# EAGLE library part DS1347 (library vulcan-1)
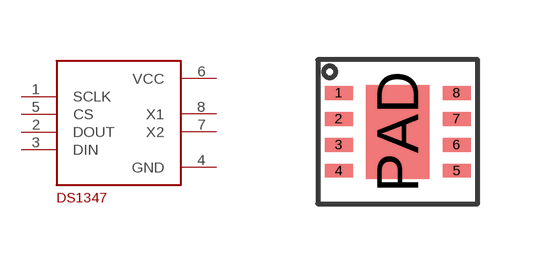
[diagram p4: symbol with the pads of TDFN-T822-2; footprint TDFN-T822-2]

Designator prefix -

## DS1347  [TDFN-T822-2]
1  SCLK
2  DOUT
3  DIN
4  GND
5  CS
6  VCC
7  X2
8  X1

## Footprint TDFN-T822-2 (pad centres in mm)
smd 0.7 x 0.35: 1 -1.475,0.975; 2 -1.475,0.325; 3 -1.475,-0.325; 4 -1.475,-0.975; 5 1.475,-0.975; 6 1.475,-0.325; 7 1.475,0.325; 8 1.475,0.975
smd 1.58 x 2.35: PAD 0,0